# EAGLE library part PINHDR_3X14 (library Dal_V2)
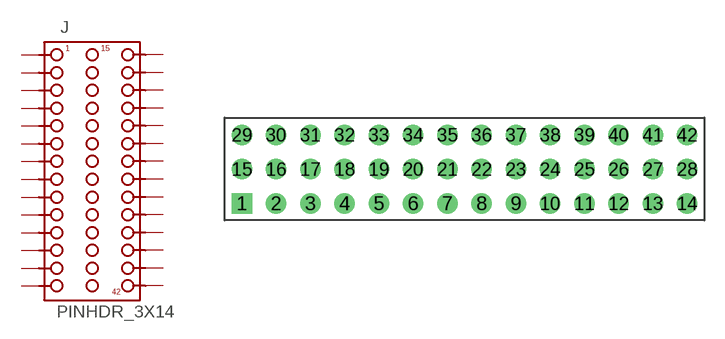
[diagram p10: symbol with the pads of PINHDR_TH_100_3X14; footprint PINHDR_TH_100_3X14]

Designator prefix J

## PINHDR_3X14  [PINHDR_TH_100_3X14]
1  P$1  pas
2  P$2  pas
3  P$3  pas
4  P$4  pas
5  P$5  pas
6  P$6  pas
7  P$7  pas
8  P$8  pas
9  P$9  pas
10  P$10  pas
11  P$11  pas
12  P$12  pas
13  P$13  pas
14  P$14  pas
15  P$15  pas
16  P$16  pas
17  P$17  pas
18  P$18  pas
19  P$19  pas
20  P$20  pas
21  P$21  pas
22  P$22  pas
23  P$23  pas
24  P$24  pas
25  P$25  pas
26  P$26  pas
27  P$27  pas
28  P$28  pas
29  P$29  pas
30  P$30  pas
31  P$31  pas
32  P$32  pas
33  P$33  pas
34  P$34  pas
35  P$35  pas
36  P$36  pas
37  P$37  pas
38  P$38  pas
39  P$39  pas
40  P$40  pas
41  P$41  pas
42  P$42  pas

## Footprint PINHDR_TH_100_3X14 (pad centres in mm)
drill 1 square: 1 0,0
drill 1: 2 2.54,0; 3 5.08,0; 4 7.62,0; 5 10.16,0; 6 12.7,0; 7 15.24,0; 8 17.78,0; 9 20.32,0; 10 22.86,0; 11 25.4,0; 12 27.94,0; 13 30.48,0; 14 33.02,0; 15 0,2.54; 16 2.54,2.54; 17 5.08,2.54; 18 7.62,2.54; 19 10.16,2.54; 20 12.7,2.54; 21 15.24,2.54; 22 17.78,2.54; 23 20.32,2.54; 24 22.86,2.54; 25 25.4,2.54; 26 27.94,2.54; 27 30.48,2.54; 28 33.02,2.54; 29 0,5.08; 30 2.54,5.08; 31 5.08,5.08; 32 7.62,5.08; 33 10.16,5.08; 34 12.7,5.08; 35 15.24,5.08; 36 17.78,5.08; 37 20.32,5.08; 38 22.86,5.08; 39 25.4,5.08; 40 27.94,5.08; 41 30.48,5.08; 42 33.02,5.08